# Altium footprint library YarnControl_Mainboard_v1.3.PcbLib: 32 footprints (part 1 of 2)
Each footprint in its own frame and in the unit in brackets; x right, y up, seen from the top. Pads: shape width x height; smd on the part's side, far side on the other; paste and mask are expansions set on the pad; w line width, h text height; cw(c..) or ccw(c..) is an arc to the next point about the centre after c.
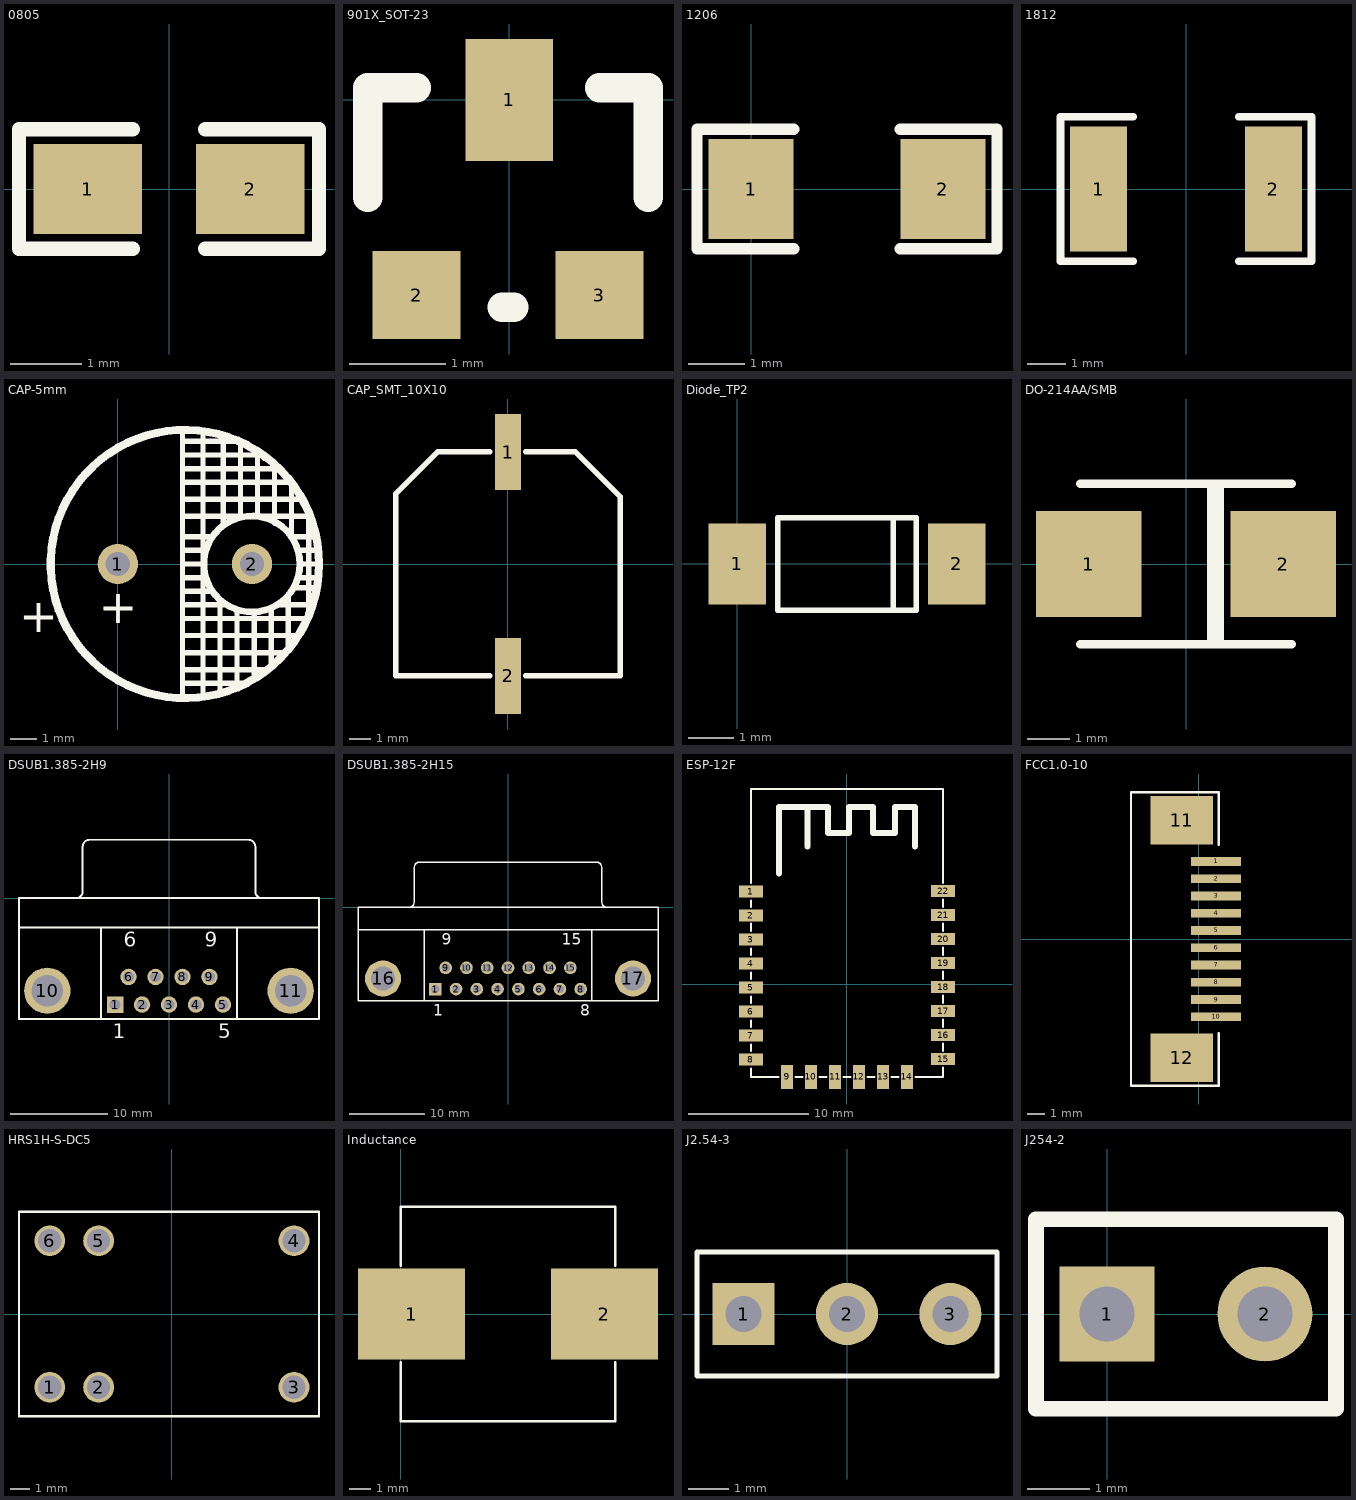
[diagram p0: the footprints below, top view; thin cyan lines are the x and y axes]

## 0805 [mil]
pads (2):
  rect 60x50 smd: 1(-45,0) 2(45,0)
Top Overlay:
  lines w8: -20,-33 -83,-33 -83,33 -20,33 ; 20,-33 83,-33 83,33 20,33
3D body: height 17.76, standoff 0, extent -39.37,-25 39.37,24.21

## 901X_SOT-23 [mil]
pads (3):
  rect 36x50 smd: 1(0,0)
  rect 36x36 smd: 2(-38,-80) 3(37,-80)
Top Overlay:
  lines w12: -58,-40 -58,5 -38,5 ; -3,-85 2,-85 ; 37,5 57,5 57,-40

## 1206 [mil]
pads (2):
  rect 60x70 smd: 1(0,0) 2(135,0)
Top Overlay:
  lines w8: 30,-42 -38,-42 -38,42 30,42 ; 105,-42 173,-42 173,42 105,42

## 1812 [mm]
pads (2):
  rect 1.5x3.3 smd: 1(-2.3,0) 2(2.3,0)
Top Overlay:
  lines w0.203: -1.397,-1.905 -3.302,-1.905 -3.302,1.905 -1.397,1.905 ; 1.397,-1.905 3.302,-1.905 3.302,1.905 1.397,1.905

## CAP-5mm [mm]
pads (2):
  round 1.5 hole 0.9: 1(0,0) 2(5,0)
Top Overlay:
  circle w0.254: c5,0 r1.79
  circle w0.305: c2.5,0 r5
  lines w0.2: 2.413,-4.953 2.413,4.953 ; 2.413,-4.445 4.826,-4.445 ; 2.413,-3.937 5.588,-3.937 5.715,-3.81 5.715,-1.651 ; 2.413,-3.302 6.223,-3.302 6.35,-3.175 6.35,-1.27 ; 2.413,-2.667 6.731,-2.667 ; 2.413,-2.032 7.112,-2.032 7.112,1.778 2.413,1.778 ; 2.413,-1.524 4.064,-1.524 ; 2.413,-1.016 3.556,-1.016 ; 2.413,-0.508 3.175,-0.508 ; 2.413,0 3.175,0 ; 2.413,0.508 3.175,0.508 ; 2.413,1.016 3.556,1.016 ; 2.413,2.413 6.858,2.413 ; 2.413,3.048 6.477,3.048 6.477,1.016 7.366,1.016 ; 2.413,3.556 5.969,3.556 6.096,3.429 ; 2.413,4.064 5.334,4.064 5.461,3.937 ; 2.413,4.572 4.572,4.572 4.572,1.778 ; 3.175,-4.953 3.175,4.953 ; 3.81,-4.826 3.81,-1.397 ; 3.937,1.397 3.937,4.826 ; 4.445,-4.572 4.445,-1.778 ; 5.08,-4.318 5.08,-1.778 ; 5.207,1.778 5.207,4.191 ; 5.842,1.524 5.842,3.683 ; 5.969,-1.524 7.112,-1.524 ; 6.604,-0.889 7.239,-0.889 7.366,-1.016 ; 6.731,-0.508 7.493,-0.508 ; 6.731,0.508 7.493,0.508 ; 6.79,0 7.5,0
  text "+" at -0.711,-2.21 h1.27
  text "+" at -3.683,-2.54 h1.27
Bottom Overlay:
  text "+" at 0.211,1.302 h1.02

## CAP_SMT_10X10 [mm]
pads (2):
  rect 1.2x3.5 smd: 1(0,5.143) 2(0,-5.143)
Top Overlay:
  lines w0.254: -0.832,-5.143 -5.15,-5.143 -5.15,3.238 -3.232,5.156 -0.832,5.156 ; 0.819,-5.143 5.15,-5.143 5.15,3.099 3.092,5.156 0.819,5.156

## Diode_TP2 [mil]
pads (2):
  rect 50x70 smd: 1(0,0) 2(190,0)
Top Overlay:
  lines w5: 135,-40 135,40 ; 35,-40 35,40 155,40 155,-40 35,-40

## DO-214AA/SMB [mm]
pads (2):
  rect 2.5x2.5 smd: 1(-2.3,0) 2(2.3,0)
Top Overlay:
  lines w0.2: -2.5,-1.9 2.5,-1.9 ; -2.5,1.9 2.5,1.9 ; 0.6,-1.9 0.6,1.9 ; 0.8,-1.9 0.8,1.9

## DSUB1.385-2H9 [mm] "Connector; D Subminiature; 9 Position; Right Angle; Pitch 1.385 mm"
height 12.75
pads (11):
  rect 1.69x1.69 hole 1.09: 1(-5.54,-10.92)
  round 1.69 hole 1.09: 2(-2.77,-10.92) 3(0,-10.92) 4(2.77,-10.92) 5(5.54,-10.92) 6(-4.155,-8.08) 7(-1.385,-8.08) 8(1.385,-8.08) 9(4.155,-8.08)
  round 4.76 hole 3.26: 10(-12.495,-9.5) 11(12.495,-9.5)
Top Overlay:
  lines w0.2: -15.4,-3 15.4,-3 ; -9.56,0.005 ccw(c-9.56,0.7) -8.865,0.7 -8.865,5.3 ; -8.86,5.305 cw(c-8.165,5.305) -8.165,6 8.165,6 cw(c8.165,5.305) 8.86,5.305 ; -7,-12.4 -7,-3 ; 7,-12.4 7,-3 ; 8.865,5.3 8.865,0.7 ccw(c9.56,0.7) 9.56,0.005 ; -15.4,-12.4 -15.4,0 15.4,0 15.4,-12.4 -15.4,-12.4
  text "1" at -5.79,-14.375 h1.5
  text "5" at 5.04,-14.375 h1.5
  text "9" at 3.655,-4.975 h1.5
  text "6" at -4.655,-4.975 h1.5

## DSUB1.385-2H15 [mm] "Connector; D Subminiature; 15 Position; Right Angle; Pitch 1.385 mm"
height 12.75
pads (17):
  rect 1.69x1.69 hole 1.09: 1(-9.695,-10.92)
  round 1.69 hole 1.09: 2(-6.925,-10.92) 3(-4.155,-10.92) 4(-1.385,-10.92) 5(1.385,-10.92) 6(4.155,-10.92) 7(6.925,-10.92) 8(9.695,-10.92) 9(-8.31,-8.08) 10(-5.54,-8.08) 11(-2.77,-8.08) 12(0,-8.08) 13(2.77,-8.08) 14(5.54,-8.08) 15(8.31,-8.08)
  round 4.8 hole 3.18: 16(-16.66,-9.5) 17(16.66,-9.5)
Top Overlay:
  lines w0.2: -20,-3 20,-3 ; -13.195,0.005 ccw(c-13.195,0.7) -12.5,0.7 -12.5,5.3 ; -12.495,5.305 cw(c-11.8,5.305) -11.8,6 11.8,6 cw(c11.8,5.305) 12.495,5.305 ; -11.14,-12.5 -11.14,-3 ; 11.14,-12.5 11.14,-3 ; 12.5,5.3 12.5,0.7 ccw(c13.195,0.7) 13.195,0.005 ; -20,-12.5 -20,0 20,0 20,-12.5 -20,-12.5
  text "1" at -9.945,-14.475 h1.5
  text "8" at 9.652,-14.475 h1.5
  text "15" at 7.185,-4.975 h1.5
  text "9" at -8.81,-4.975 h1.5

## ESP-12F [mm]
pads (22):
  rect 2x1 smd: 1(-8,7.7) 2(-8,5.7) 3(-8,3.7) 4(-8,1.7) 5(-8,-0.3) 6(-8,-2.3) 7(-8,-4.3) 8(-8,-6.3) 15(8,-6.26) 16(8,-4.26) 17(8,-2.26) 18(8,-0.26) 19(8,1.74) 20(8,3.74) 21(8,5.74) 22(8,7.74)
  rect 1x2 smd: 9(-5,-7.74) 10(-3,-7.74) 11(-1,-7.74) 12(1,-7.74) 13(3,-7.74) 14(5,-7.74)
Top Overlay:
  lines w0.127: -8,-7.02 -8,-7.74 -5.68,-7.74 ; -8,-5.58 -8,-5.02 ; -8,-3.58 -8,-3.02 ; -8,-1.58 -8,-1.02 ; -8,0.42 -8,0.98 ; -8,2.42 -8,2.98 ; -8,4.42 -8,5.06 ; -8,6.42 -8,6.98 ; -8,8.42 -8,16.26 8,16.26 8,8.42 ; -4.32,-7.74 -3.68,-7.74 ; -2.32,-7.74 -1.68,-7.74 ; -0.32,-7.74 0.32,-7.74 ; 1.68,-7.74 2.32,-7.74 ; 3.68,-7.74 4.32,-7.74 ; 5.68,-7.74 8,-7.74 8,-6.94 ; 8,-5.58 8,-4.94 ; 8,-3.58 8,-2.94 ; 8,-1.58 8,-0.94 ; 8,0.42 8,1.06 ; 8,2.42 8,3.06 ; 8,4.42 8,5.06 ; 8,6.42 8,7.06
  lines w0.5: -5.68,9.22 -5.68,14.74 -1.6,14.74 -1.6,12.58 0.16,12.58 0.16,14.74 2.16,14.74 2.16,12.58 4,12.58 4,14.74 5.36,14.74 5.68,14.74 5.68,11.46 ; -3.28,11.46 -3.28,14.74

## FCC1.0-10 [mil]
pads (12):
  rect 114x20 smd: 1(39,177) 2(39,137.63) 3(39,98.26) 4(39,58.89) 5(39,19.52) 6(39,-19.85) 7(39,-59.22) 8(39,-98.59) 9(39,-137.96) 10(39,-177.33)
  rect 142x110 smd: 11(-39,271) 12(-39,-271)
Top Overlay:
  lines w5: 45,-215 45,-334.65 -155,-334.65 -155,334.65 45,334.65 45,215

## HRS1H-S-DC5 [mm]
pads (6):
  round 1.6 hole 1.2: 1(-6.35,-3.81) 2(-3.81,-3.81) 3(6.35,-3.81) 4(6.35,3.81) 5(-3.81,3.81) 6(-6.35,3.81)
Top Overlay:
  lines w0.127: -7.95,-5.31 -7.95,5.31 7.65,5.31 7.65,-5.31 -7.95,-5.31

## Inductance [mil]
pads (2):
  rect 200x170 smd: 1(20,0) 2(380,0)
Top Overlay:
  lines w5: 0,-90 0,-200 400,-200 400,-90 ; 0,90 0,200 400,200 400,90

## J2.54-3 [mil]
pads (3):
  rect 60x60 hole 35: 1(-100,0)
  round 60 hole 35: 2(0,0) 3(100,0)
Top Overlay:
  lines w5: -145,-60 -145,60 145,60 145,-60 -145,-60

## J254-2 [mil]
pads (2):
  rect 60x60 hole 35: 1(0,0)
  round 60 hole 35: 2(100,0)
Top Overlay:
  lines w10: -45,-60 145,-60 145,60 -45,60 -45,-60